# Altium schematic symbol library Datalogger.SchLib: 32 symbols
Pins are listed as number, name and electrical type; pins without a type are passive.

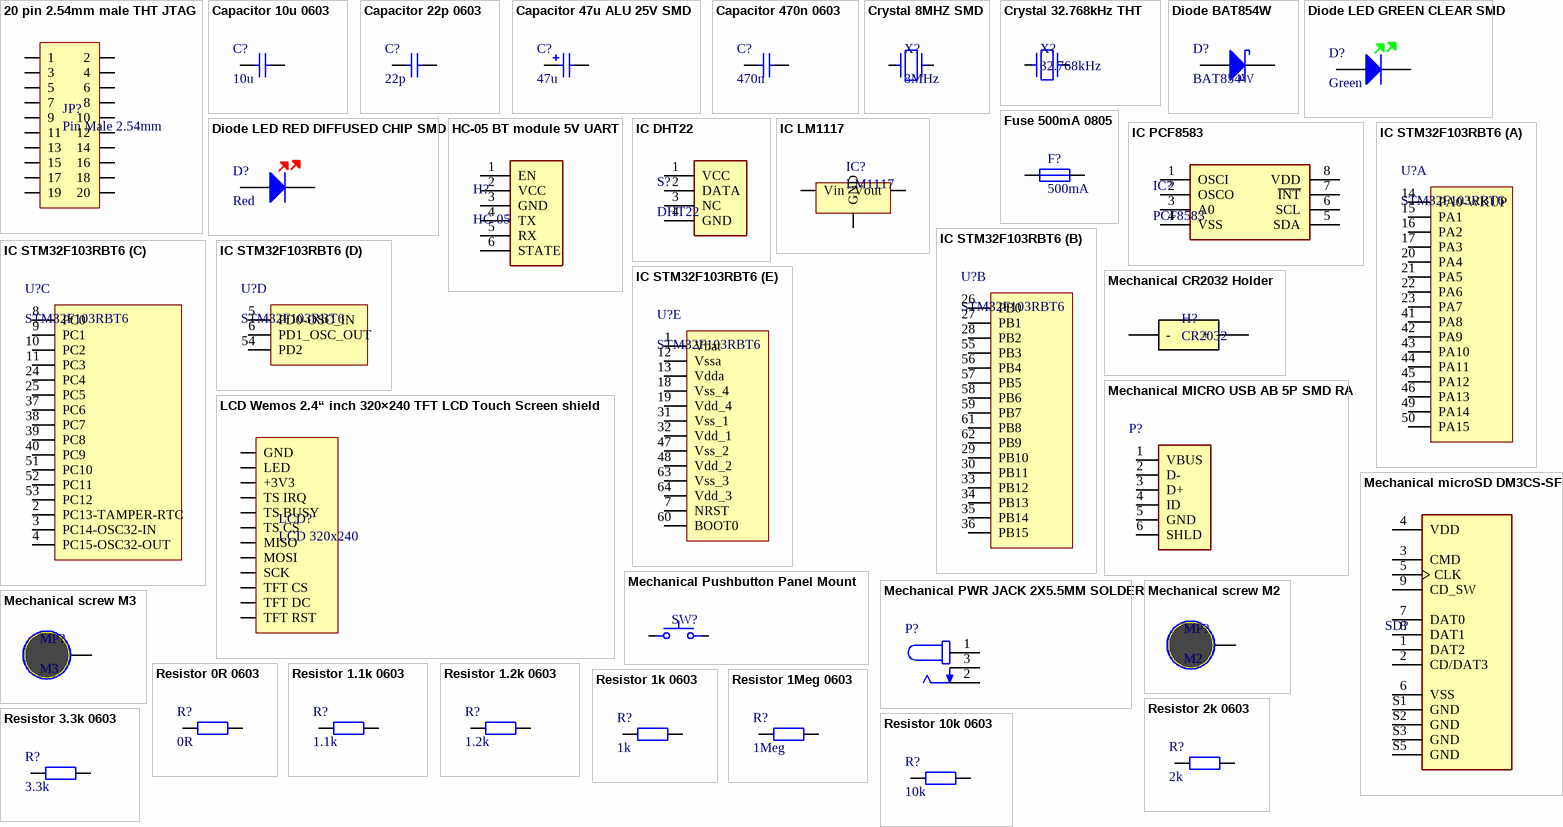
[diagram p0: symbols 20 pin 2.54mm male THT JTAG to Resistor 10k 0603]

## 20 pin 2.54mm male THT JTAG
designator JP?, comment Pin Male 2.54mm
CONN HEADER VERT 20POS 2.54MM; Manufacturer: Sullins; Manufacturer Part Number: SBH11-PBPC-D10-ST-BK; Product Training Modules: Box Header Line / IDC Header Line; Product Change Notification: Reflow Processing Not Recommended 05/Apr/2012; Catalog Drawings: Straight 2.54mm Male; Featured Product: Fully Shrouded Box Headers; Connector Type: Header, Shrouded; Number of Positions: 20; Number of Positions Loaded: All; Pitch: 0.100" (2.54mm); Dynamic Catalog: SBH Series; Mating Products: S9321-ND / - CONN SOCKET IDC 20POS W/STR GOLD / S9309-ND / - CONN SOCKET IDC 20POS W/STR GOLD / S9299-ND / - CONN SOCKET IDC 20POS W/O KEY AU / S9289-ND / - CONN SOCKET IDC 20POS W/KEY GOLD / S9205-ND / - CONN HEADR FMALE 20PS .1" R/A AU / S9197-ND / - CONN HEADR FMALE 20POS .1" DL AU; Other Names: S9172; Supplier 1: Digi-Key; Stock 1: 21064; Pricing 1: 1=0.54, 10=0.51, 100=0.3912, 500=0.3402, 1000=0.2807, 5000=0.2467, 10000=0.2457 (USD); Standard Package: 1; Category: Connectors, Interconnects; Family: Rectangular Connectors - Headers, Male Pins; Series: SBH11; Contact Type: Male Pin; Number of Rows: 2; Row Spacing: 0.100" (2.54mm); Mounting Type: Through Hole; Termination: Solder; Contact Finish: Gold; Contact Finish Thickness: Flash; Color: Black; Packaging: Tray; ComponentLink1URL: https://s3.amazonaws.com/catalogspreads-pdf/PAGE122%20.100%20SBH11%20SERIES%20MALE%20BOX%20HDR%20ST%20RA%20SMT.pdf?src-supplier=Digi-Key; ComponentLink1Description: https://s3.amazonaws.com/catalogspreads-pdf/PAGE122%20.100%20SBH11%20SERIES%20MALE%20BOX%20HDR%20ST%20RA%20SMT.pdf?src-supplier=Digi-Key; Supplier Part Number 1: S9172-ND
footprint 20 pin 2.54mm male THT JTAG
pins: 1, 2, 3, 4, 5, 6, 7, 8, 9, 10, 11, 12, 13, 14, 15, 16, 17, 18, 19, 20

## Capacitor 10u 0603
designator C?, comment 10u
Capacitor 10u 0603
footprint Capacitor 0603
pins: 1, 2

## Capacitor 22p 0603
designator C?, comment 22p
Capacitor 22p 0603
footprint Capacitor 0603
pins: 1, 2

## Capacitor 47u ALU 25V SMD
designator C?, comment 47u
Manufacturer: Panasonic; Manufacturer Part Number: EEE-FK1E470AL; Supplier 1: Newark; RoHS: No; Supplier Part Number 1: 77AH6616
footprint Capacitor ALU EEE-FK case D
pins: 1, 2

## Capacitor 470n 0603
designator C?, comment 470n
Capacitor 470n 0603
footprint Capacitor 0603
pins: 1, 2

## Crystal 8MHZ SMD
designator X?, comment 8MHz
CRYSTAL 8.0000MHZ 18PF SMD; Manufacturer: TXC; Manufacturer Part Number: 9C-8.000MEEJ-T; Catalog Drawings: 9C Series Side 1 / 9C Series Side 2 / 9C Series Bottom; Frequency Stability: ±10ppm; ESR (Equivalent Series Resistance): 80 Ohm; Operating Mode: Fundamental; Dynamic Catalog: 9C Series; Other Names: 887-1263-6; Supplier 1: Digi-Key; Stock 1: 61610; Pricing 1: 1=0.59, 10=0.495, 50=0.4456, 100=0.396, 500=0.3762 (USD); Standard Package: 1; Category: Crystals and Oscillators; Family: Crystals; Series: 9C; Type: MHz Crystal; Frequency: 8MHz; Frequency Tolerance: ±10ppm; Load Capacitance: 18pF; Operating Temperature: -20°C ~ 70°C; Mounting Type: Surface Mount; Package / Case: HC49/US; Size / Dimension: 0.449" L x 0.189" W (11.40mm x 4.80mm); Height: 0.161" (4.10mm); Packaging: Digi-Reel®; ComponentLink1URL: http://www.txccrystal.com/images/pdf/9c-accuracy.pdf?src-supplier=Digi-Key; ComponentLink1Description: http://www.txccrystal.com/images/pdf/9c-accuracy.pdf?src-supplier=Digi-Key; ComponentLink2URL: http://www.txccorp.com/download/products/quartz_crystals/2015TXC_9C_32.pdf?src-supplier=Digi-Key; ComponentLink2Description: http://www.txccorp.com/download/products/quartz_crystals/2015TXC_9C_32.pdf?src-supplier=Digi-Key; ComponentLink3URL: http://www.farnell.com/datasheets/1497895.pdf?src-supplier=Element14; ComponentLink3Description: http://www.farnell.com/datasheets/1497895.pdf?src-supplier=Element14; ComponentLink4URL: http://www.mouser.com/ds/2/417/9c-13007.pdf?src-supplier=Mouser; ComponentLink4Description: http://www.mouser.com/ds/2/417/9c-13007.pdf?src-supplier=Mouser; ComponentLink5URL: http://www.farnell.com/datasheets/1794112.pdf?src-supplier=Element14; ComponentLink5Description: http://www.farnell.com/datasheets/1794112.pdf?src-supplier=Element14; Supplier Part Number 1: 887-1263-1-ND
footprint 8MHZ SMD
pins: 1, 2

## Crystal 32.768kHz THT
designator X?, comment 32.768kHz
CRYSTAL 32.7680KHZ 12.5PF T/H; Manufacturer: Abracon; Manufacturer Part Number: AB15T-32.768KHZ; Tolerance: 20 PPM; Case Diameter: 1.4 mm; Case Length: 5 mm; ESR: 40 kOhms; Supplier 1: Digi-Key; Stock 1: 2689; Pricing 1: 1=1.41, 10=1.344, 50=1.3126, 100=1.125, 500=1.0938, 1000=0.9219, 2500=0.875 (USD); Product Category: Crystals; RoHS: Details; Brand: ABRACON; Frequency: 32.768 kHz; Load Capacitance: 12.5 pF; Termination Style: Radial; Package / Case: Cylinder; Operating Temperature Range: - 20 C to + 70 C; Dimensions: 1.4 mm Dia. x 5 mm L; Packaging: Bulk; Mounting Style: Through Hole; Series: AB15T; Factory Pack Quantity: 500; Type: Low Frequency Cylindrical Watch Crystal; ComponentLink1URL: https://abracon.com/Support/PackageDrawing/Resonators/AB15T.PDF?src-supplier=Digi-Key; ComponentLink1Description: https://abracon.com/Support/PackageDrawing/Resonators/AB15T.PDF?src-supplier=Digi-Key; ComponentLink2URL: http://www.mouser.com/ds/2/3/ab-39594.pdf?src-supplier=Mouser; ComponentLink2Description: http://www.mouser.com/ds/2/3/ab-39594.pdf?src-supplier=Mouser; ComponentLink3URL: https://www.verical.com/server-webapp/html/getDatasheet?partID=720059&src-supplier=Verical; ComponentLink3Description: https://www.verical.com/server-webapp/html/getDatasheet?partID=720059&src-supplier=Verical; ComponentLink4URL: http://www.farnell.com/datasheets/1718754.pdf?src-supplier=Element14; ComponentLink4Description: http://www.farnell.com/datasheets/1718754.pdf?src-supplier=Element14; ComponentLink5URL: http://www.abracon.com/Resonators/AB15T.pdf?src-supplier=Future+Electronics; ComponentLink5Description: http://www.abracon.com/Resonators/AB15T.pdf?src-supplier=Future+Electronics; ComponentLink6URL: http://www.abracon.com/Resonators/AB15T.pdf?src-supplier=Avnet; ComponentLink6Description: http://www.abracon.com/Resonators/AB15T.pdf?src-supplier=Avnet; Supplier Part Number 1: 535-9031-ND
footprint 32.768kHz THT
pins: 1, 2

## Diode BAT854W
designator D?, comment BAT854W
DIODE SCHOTTKY 40V 200MA SOT323; Manufacturer: Nexperia; Manufacturer Part Number: BAT854W,115; Supplier 1: Digi-Key; Stock 1: 6583; Pricing 1: 1=0.3, 10=0.249, 25=0.2088, 100=0.102, 250=0.10036, 500=0.08508, 1000=0.05911 (USD); ComponentLink1URL: http://www.farnell.com/datasheets/2342726.pdf?src-supplier=Farnell; ComponentLink1Description: http://www.farnell.com/datasheets/2342726.pdf?src-supplier=Farnell; ComponentLink2URL: https://assets.nexperia.com/documents/data-sheet/BAT854W_SERIES.pdf?src-supplier=Digi-Key; ComponentLink2Description: https://assets.nexperia.com/documents/data-sheet/BAT854W_SERIES.pdf?src-supplier=Digi-Key; ComponentLink3URL: http://www.farnell.com/datasheets/2342726.pdf?src-supplier=Newark; ComponentLink3Description: http://www.farnell.com/datasheets/2342726.pdf?src-supplier=Newark; Supplier Part Number 1: 1727-6178-1-ND
footprint SOT323_BAT
pins: 1, 3

## Diode LED GREEN CLEAR SMD
designator D?, comment Green
LED Uni-Color Green 574nm 2-Pin Chip LED T/R; Manufacturer: Vishay Lite-On; Manufacturer Part Number: LTST-C191KGKT; Lens Color: Colorless; Power Rating: 75mW; Luminous Intensity: 35mcd; Viewing Angle: 130°; Lens Style: Rectangular,Colorless; Forward Current: 30mA; Forward Voltage: 2V; Dominant Wavelength: 571nm; Test Current: 20mA; Lens Transparency: Clear; Number of Elements: 1; Reverse Voltage: 5V; Supplier 1: Digi-Key; Stock 1: 412024; Pricing 1: 1=0.26, 10=0.192, 100=0.0909, 500=0.0606, 1000=0.04747, 2500=0.04646 (USD); Mount: Surface Mount; Case/Package: 0603; Number of Pins: 2; Color: Green; Case Code (Metric): 1608; Case Code (Imperial): 0603; Min Operating Temperature: -55°C; Max Operating Temperature: 85°C; Packaging: Tape and Reel; Package Quantity: 1; Illumination Color: Green; Power Dissipation: 75mW; Wavelength: 574nm; Number of LEDs: 1; Max Power Dissipation: 75mW; Length: 1.6mm; Height: 0.55mm; Width: 0.8mm; Depth: 0.8mm; Radiation Hardening: No; Lead Free: Lead Free; ComponentLink1URL: http://optoelectronics.liteon.com/upload/download/DS22-2000-228/LTST-C191KGKT.PDF?src-supplier=Digi-Key; ComponentLink1Description: http://optoelectronics.liteon.com/upload/download/DS22-2000-228/LTST-C191KGKT.PDF?src-supplier=Digi-Key; Supplier Part Number 1: 160-1446-1-ND
footprint Diode LED 0603 G
pins: 1, 2

## Diode LED RED DIFFUSED CHIP SMD
designator D?, comment Red
BROADCOM LIMITED         HSMC-C190             LED, Red, SMD, 20 mA, 1.9 V, 626 nm; Manufacturer: Broadcom Avago; Lens Color: White; Luminous Intensity: 90mcd; Viewing Angle: 170°; Forward Voltage: 1.9V; Wavelength: 626nm; Lens Style: Rectangular,Diffused,Colorless; Power Dissipation: 60mW; Forward Current: 20mA; Lens Transparency: Diffused; Number of Elements: 1; Reverse Voltage: 5V; Number of Channels: 2; Capacitance: 47pF; Tolerance: 10%; ESD Protection: Yes; DC Resistance (DCR): 33R; Test Frequency: 30MHz; Supplier 1: Digi-Key; Manufacturer Part Number: HSMC-C190; Stock 1: 243410; Pricing 1: 1=0.58, 10=0.416, 100=0.2714, 500=0.19504, 1000=0.15264 (USD); Mount: Surface Mount; Case/Package: 0603; Number of Pins: 2; Color: Red; Case Code (Metric): 1608; Case Code (Imperial): 0603; Min Operating Temperature: -40°C; Max Operating Temperature: 85°C; Packaging: Tape and Reel; Package Quantity: 1; Illumination Color: Red; Dominant Wavelength: 626nm; Test Current: 20mA; Voltage Rating (DC): 1.9V; Number of LEDs: 1; Power Rating: 60mW; Max Power Dissipation: 60mW; Length: 1.6mm; Height: 0.8mm; Depth: 0.8mm; Width: 0.8mm; Radiation Hardening: No; Lead Free: Lead Free; REACH SVHC: No SVHC; ComponentLink1URL: https://www.verical.com/server-webapp/html/getDatasheet?partID=128083&src-supplier=Verical; ComponentLink1Description: https://www.verical.com/server-webapp/html/getDatasheet?partID=128083&src-supplier=Verical; ComponentLink2URL: http://uk.rs-online.com/webdocs/0db8/0900766b80db8814.pdf?src-supplier=RSComponents; ComponentLink2Description: http://uk.rs-online.com/webdocs/0db8/0900766b80db8814.pdf?src-supplier=RSComponents; ComponentLink3URL: https://www.distrelec.biz/Web/Downloads/_t/ds/HSMx-C110-170-190-191-150_eng_tds.pdf?mime=application%2Fpdf&src-supplier=Distrelec; ComponentLink3Description: https://www.distrelec.biz/Web/Downloads/_t/ds/HSMx-C110-170-190-191-150_eng_tds.pdf?mime=application%2Fpdf&src-supplier=Distrelec; ComponentLink4URL: http://www.farnell.com/datasheets/55913.pdf?src-supplier=Element14; ComponentLink4Description: http://www.farnell.com/datasheets/55913.pdf?src-supplier=Element14; ComponentLink5URL: http://www.produktinfo.conrad.com/datenblaetter/175000-199999/180490-da-01-en-CHIP_LED_HSMC_C190_ROT.pdf?src-supplier=Conrad; ComponentLink5Description: http://www.produktinfo.conrad.com/datenblaetter/175000-199999/180490-da-01-en-CHIP_LED_HSMC_C190_ROT.pdf?src-supplier=Conrad; Supplier Part Number 1: 516-1421-1-ND; Termination: Gull Wing; ComponentLink6URL: http://uk.rs-online.com/webdocs/097d/0900766b8097d6dc.pdf?src-supplier=RSComponents; ComponentLink6Description: http://uk.rs-online.com/webdocs/097d/0900766b8097d6dc.pdf?src-supplier=RSComponents; ComponentLink7URL: http://www.mouser.com/ds/2/389/usbuf-957373.pdf?src-supplier=Mouser; ComponentLink7Description: http://www.mouser.com/ds/2/389/usbuf-957373.pdf?src-supplier=Mouser; ComponentLink8URL: http://www.st.com/content/ccc/resource/technical/document/datasheet/19/ec/30/05/43/a9/45/e1/CD00002046.pdf/files/CD00002046.pdf/jcr:content/translations/en.CD00002046.pdf?src-supplier=Digi-Key; ComponentLink8Description: http://www.st.com/content/ccc/resource/technical/document/datasheet/19/ec/30/05/43/a9/45/e1/CD00002046.pdf/files/CD00002046.pdf/jcr:content/translations/en.CD00002046.pdf?src-supplier=Digi-Key; ComponentLink9URL: https://www.verical.com/server-webapp/html/getDatasheet?partID=131618&src-supplier=Verical; ComponentLink9Description: https://www.verical.com/server-webapp/html/getDatasheet?partID=131618&src-supplier=Verical; ComponentLink10URL: http://datasheet.iiic.cc/stmicroelectronics/USBUF02W6.pdf?src-supplier=IIIC; ComponentLink10Description: http://datasheet.iiic.cc/stmicroelectronics/USBUF02W6.pdf?src-supplier=IIIC
footprint Diode LED 0603 R
pins: 1, 2

## Fuse 500mA 0805
designator F?, comment 500mA
Fuse 500mA 0805
footprint Fuse 0805
pins: 1, 2

## HC-05 BT module 5V UART
designator H?, comment HC-05
HC-05 BT module 5V UART
footprint HC05
pins: 1 EN, 2 VCC, 3 GND, 4 TX, 5 RX, 6 STATE

## IC DHT22
designator S?, comment DHT22
IC DHT22 1-Wire
footprint DHT22
pins: 1 VCC, 2 DATA, 3 NC, 4 GND

## IC LM1117
designator IC?, comment LM1117
STMICROELECTRONICS         L78L33ACUTR            Linear Voltage Regulator, Fixed, 8.3V To 30V In, 3.3V And 0.1A Out, SOT-89-3; Output Current: 100mA; Linear Regulator Case Style: SOT-89; No. of Pins: 3Pins; Product Range: L78L Series; SVHC: No SVHC (17-Dec-2015); Supplier 1: Digi-Key; Manufacturer: STMicroelectronics; Manufacturer Part Number: L78L33ACUTR; Stock 1: 24177; Pricing 1: 1=0.5, 10=0.408, 100=0.252, 500=0.1912, 1000=0.1434 (USD); Input Voltage Min: 8.3V; Input Voltage Max: 30V; Output Voltage Nom.: 3.3V; Operating Temperature Min: 0°C; Operating Temperature Max: 125°C; Packaging: Cut Tape; MSL: MSL 1 - Unlimited; ComponentLink1URL: http://www.st.com/content/ccc/resource/technical/document/datasheet/15/55/e5/aa/23/5b/43/fd/CD00000446.pdf/files/CD00000446.pdf/jcr:content/translations/en.CD00000446.pdf?src-supplier=Digi-Key; ComponentLink1Description: http://www.st.com/content/ccc/resource/technical/document/datasheet/15/55/e5/aa/23/5b/43/fd/CD00000446.pdf/files/CD00000446.pdf/jcr:content/translations/en.CD00000446.pdf?src-supplier=Digi-Key; ComponentLink2URL: http://www.farnell.com/datasheets/1897877.pdf?src-supplier=Element14; ComponentLink2Description: http://www.farnell.com/datasheets/1897877.pdf?src-supplier=Element14; ComponentLink3URL: http://www.mouser.com/ds/2/389/l78l-974102.pdf?src-supplier=Mouser; ComponentLink3Description: http://www.mouser.com/ds/2/389/l78l-974102.pdf?src-supplier=Mouser; ComponentLink4URL: http://www.produktinfo.conrad.com/datenblaetter/1100000-1199999/001184652-da-01-en-IC_REG_LDO_3_3V_L78L33ACUTR_SOT_89_3_STM.pdf?src-supplier=Conrad; ComponentLink4Description: http://www.produktinfo.conrad.com/datenblaetter/1100000-1199999/001184652-da-01-en-IC_REG_LDO_3_3V_L78L33ACUTR_SOT_89_3_STM.pdf?src-supplier=Conrad; Supplier Part Number 1: 497-1200-1-ND
footprint ic lm1117
pins: 1 GND, 2 Vout, 3 Vin

## IC PCF8583
designator IC?, comment PCF8583
IC RTC CLK/CALENDAR I2C 8-SOIC; Manufacturer: NXP Semiconductors; Manufacturer Part Number: PCF8583T/5,518; Max Supply Voltage: 6V; Min Supply Voltage: 2.5V; Memory Size: 240B; Logic Function: Clock; Time Format: HH:MM:SS:hh; Supplier 1: Digi-Key; Stock 1: 1331; Pricing 1: 1=2.82, 10=2.536, 25=2.3928, 100=2.0386, 250=1.91416, 500=1.6749 (USD); Mount: Surface Mount; Case/Package: SO; Number of Pins: 8; Contact Plating: Gold; Min Operating Temperature: -40°C; Max Operating Temperature: 85°C; Packaging: Tape and Reel; Interface: I2C; Package Quantity: 1000; Radiation Hardening: No; REACH SVHC: No SVHC; Lead Free: Lead Free; ComponentLink1URL: https://www.nxp.com/docs/en/data-sheet/PCF8583.pdf?src-supplier=Digi-Key; ComponentLink1Description: https://www.nxp.com/docs/en/data-sheet/PCF8583.pdf?src-supplier=Digi-Key; ComponentLink2URL: http://www.nxp.com/documents/data_sheet/PCF8583.pdf?src-supplier=Digi-Key; ComponentLink2Description: http://www.nxp.com/documents/data_sheet/PCF8583.pdf?src-supplier=Digi-Key; ComponentLink3URL: http://www.farnell.com/datasheets/954507.pdf?src-supplier=Element14; ComponentLink3Description: http://www.farnell.com/datasheets/954507.pdf?src-supplier=Element14; ComponentLink4URL: http://www.nxp.com/documents/data_sheet/PCF8583.pdf?src-supplier=Future+Electronics; ComponentLink4Description: http://www.nxp.com/documents/data_sheet/PCF8583.pdf?src-supplier=Future+Electronics; ComponentLink5URL: http://datasheet.iiic.cc/nxp_semiconductors/PCF8583T_5,518.pdf?src-supplier=IIIC; ComponentLink5Description: http://datasheet.iiic.cc/nxp_semiconductors/PCF8583T_5,518.pdf?src-supplier=IIIC; Supplier Part Number 1: 568-1085-6-ND
footprint SOIC8
pins: 1 OSCI, 2 OSCO, 3 A0, 4 VSS, 5 SDA, 6 SCL, 7 ~{INT}, 8 VDD

## IC STM32F103RBT6
designator U?, comment STM32F103RBT6
footprint LQFP64
part A pins: 14 PA0-WKUP, 15 PA1, 16 PA2, 17 PA3, 20 PA4, 21 PA5, 22 PA6, 23 PA7, 41 PA8, 42 PA9, 43 PA10, 44 PA11, 45 PA12, 46 PA13, 49 PA14, 50 PA15
part B pins: 26 PB0, 27 PB1, 28 PB2, 29 PB10, 30 PB11, 33 PB12, 34 PB13, 35 PB14, 36 PB15, 55 PB3, 56 PB4, 57 PB5, 58 PB6, 59 PB7, 61 PB8, 62 PB9
part C pins: 2 PC13-TAMPER-RTC, 3 PC14-OSC32-IN, 4 PC15-OSC32-OUT, 8 PC0, 9 PC1, 10 PC2, 11 PC3, 24 PC4, 25 PC5, 37 PC6, 38 PC7, 39 PC8, 40 PC9, 51 PC10, 52 PC11, 53 PC12
part D pins: 5 PD0-OSC_IN, 6 PD1_OSC_OUT, 54 PD2
part E pins: 1 Vbat, 7 NRST, 12 Vssa, 13 Vdda, 18 Vss_4, 19 Vdd_4, 31 Vss_1, 32 Vdd_1, 47 Vss_2, 48 Vdd_2, 60 BOOT0, 63 Vss_3, 64 Vdd_3

## LCD Wemos 2.4“ inch 320×240 TFT LCD Touch Screen shield
designator LCD?, comment LCD 320x240
Wemos 2.4“ inch 320×240 TFT LCD Touch Screen shield
footprint LCD_PINS
pins: 1 GND, 2 LED, 3 +3V3, 4 TS IRQ, 5 TS BUSY, 6 TS CS, 7 MISO, 8 MOSI, 9 SCK, 10 TFT CS, 11 TFT DC, 12 TFT RST

## Mechanical CR2032 Holder
designator H?, comment CR2032
Manufacturer: Memory Protection Devices; Manufacturer Part Number: BU2032SM-FH-GTR; Supplier 1: Digi-Key; Stock 1: 3390; Pricing 1: 1=1.17, 10=0.984, 100=0.8152 (USD); ComponentLink1URL: http://www.memoryprotectiondevices.com/datasheets/BU2032SM-FH-GTR-datasheet.pdf?src-supplier=Digi-Key; ComponentLink1Description: http://www.memoryprotectiondevices.com/datasheets/BU2032SM-FH-GTR-datasheet.pdf?src-supplier=Digi-Key; Supplier Part Number 1: BU2032SM-FH-GCT-ND
footprint CR2032 HOLDER
pins: 1 -, 2 +

## Mechanical MICRO USB AB 5P SMD RA
designator P?  (value not drawn)
CONN RCPT MICRO USB AB 5P SMD RA; Manufacturer: Molex; Manufacturer Part Number: 0475900001; Number of Contacts: 5; Gender: Receptacle; Number of Ports: 1; Max Voltage Rating (AC): 100V; Pitch: 0.65mm; Supplier 1: Digi-Key; Stock 1: 8334; Pricing 1: 1=0.78, 10=0.682, 25=0.6416, 50=0.6148, 100=0.5881, 250=0.5346, 500=0.48114 (USD); Mount: Surface Mount,Horizontal; Contact Material: Copper Alloy; Contact Plating: Gold; Number of Terminals: 5; Housing Material: Polymer; Min Operating Temperature: -20°C; Max Operating Temperature: 85°C; Packaging: Tape and Reel; Connector Type: USB; Termination: Solder; Orientation: Right Angle; Package Quantity: 1; Features: Shielded; Length: 8.65mm; Depth: 5.8mm; ComponentLink1URL: https://www.molex.com/pdm_docs/sd/475900001_sd.pdf?src-supplier=Digi-Key; ComponentLink1Description: https://www.molex.com/pdm_docs/sd/475900001_sd.pdf?src-supplier=Digi-Key; Supplier Part Number 1: WM17144CT-ND
footprint Mechanical microUSB
pins: 1 VBUS, 2 D-, 3 D+, 4 ID, 5 GND, 6 SHLD

## Mechanical microSD DM3CS-SF
designator SD?  (value not drawn)
footprint Mechanical SD card
pins: 1 DAT2, 2 CD/DAT3, 3 CMD, 4 VDD, 5 CLK, 6 VSS, 7 DAT0, 8 DAT1, 9 CD_SW, S1 GND, S2 GND, S3 GND, S5 GND

## Mechanical Pushbutton Panel Mount
designator SW?  (value not drawn)
SWITCH PUSHBUTTON SPST 3A 125V; Manufacturer: E-Switch; Manufacturer Part Number: PS1023BBLK; Voltage Rating AC: 250 V; Supplier 1: Digi-Key; Stock 1: 344; Pricing 1: 1=1.54, 10=1.436, 25=1.368, 50=1.2996, 100=1.2654, 250=1.2312, 500=1.1628, 1000=1.0944, 5000=0.9234 (USD); Product Category: Pushbutton Switches; RoHS: Details; Current Rating: 3 A; Brand: E-Switch; Packaging: Bulk; Series: PS1023; ComponentLink1URL: https://media.digikey.com/pdf/Data%20Sheets/E-Switch%20PDFs/PS1023BBLK.pdf?src-supplier=Digi-Key; ComponentLink1Description: https://media.digikey.com/pdf/Data%20Sheets/E-Switch%20PDFs/PS1023BBLK.pdf?src-supplier=Digi-Key; Supplier Part Number 1: EG5932-ND
footprint TACTSWITCH SMD 6x6
pins: 1, 2

## Mechanical PWR JACK 2X5.5MM SOLDER
designator P?  (value not drawn)
Conn Power F 2 POS Solder RA Thru-Hole 3 Terminal 1 Port; Manufacturer: CUI; Manufacturer Part Number: PJ-002A; Gender: Male; Shielding: Unshielded; Current Rating: 2.5A; Connector Type: Jack; Voltage Rating: 24V; Insulation Resistance: 50MR; Number of Conductors: 2; Supplier 1: Digi-Key; Stock 1: 35595; Pricing 1: 1=0.6, 10=0.558, 25=0.5024, 50=0.4464, 100=0.4278, 250=0.3906, 500=0.372, 1000=0.3069, 2500=0.279 (USD); Mount: Through Hole; Color: Black; Contact Material: Copper Alloy,Copper; Contact Plating: Tin,Nickel; Housing Color: Black; Housing Material: Thermoplastic; Min Operating Temperature: -25°C; Max Operating Temperature: 85°C; Termination: Through Hole; Packaging: Bulk; Package Quantity: 500; Contact Gender: Male; Orientation: Horizontal; Diameter: 2.1mm; Lead Free: Lead Free; Flammability Rating: UL94 V-0; Supplier Part Number 1: CP-002A-ND
footprint Mechanical CUI_PJ-002A
pins: 1, 2, 3

## Mechanical screw M2
designator MP?, comment M2
footprint Mechanical screw M2
pins: 0

## Mechanical screw M3
designator MP?, comment M3
footprint Mechanical screw M3
pins: 0

## Resistor 0R 0603
designator R?, comment 0R
Resistor 0R 0603
footprint Resistor 0603
pins: 1, 2

## Resistor 1.1k 0603
designator R?, comment 1.1k
Resistor 1.1k 0603
footprint Resistor 0603
pins: 1, 2

## Resistor 1.2k 0603
designator R?, comment 1.2k
Resistor 1.2k 0603
footprint Resistor 0603
pins: 1, 2

## Resistor 1k 0603
designator R?, comment 1k
Resistor 1k 0603
footprint Resistor 0603
pins: 1, 2

## Resistor 1Meg 0603
designator R?, comment 1Meg
Resistor 1Meg 0603
footprint Resistor 0603
pins: 1, 2

## Resistor 2k 0603
designator R?, comment 2k
Resistor 2k 0603
footprint Resistor 0603
pins: 1, 2

## Resistor 3.3k 0603
designator R?, comment 3.3k
Resistor 3.3k 0603
footprint Resistor 0603
pins: 1, 2

## Resistor 10k 0603
designator R?, comment 10k
Resistor 10k 0603
footprint Resistor 0603
pins: 1, 2